# Altium schematic symbol library Sch_Other.SchLib: 1 symbol
Pins are listed as number, name and electrical type; pins without a type are passive.

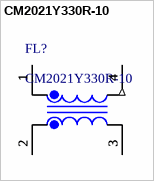
[diagram p0: symbol CM2021Y330R-10]

## CM2021Y330R-10
designator FL?
Filter; Manufacturer_Name: Laird-Signal Integrity Products; Datasheet Link: http://assets.lairdtech.com/home/brandworld/files/CM2021Y330R-10.pdf; Height: 3.8mm; Manufacturer_Part_Number: CM2021Y330R-10
footprint CM2021Y330R10
pins: 1, 1, 1, 1, 2, 2, 2, 2, 3, 3, 3, 3, 4 (out), 4 (out), 4 (out), 4 (out)